# Altium schematic symbol library mp2315.SchLib: 2 symbols
Pins are listed as number, name and electrical type; pins without a type are passive.

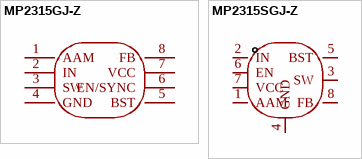
[diagram p0: symbols MP2315GJ-Z to MP2315SGJ-Z]

## MP2315GJ-Z
designator U?  (value not drawn)
Manufacturer: MPS(芯源); Add into BOM: yes; Function: 降压型; Input Voltage: 4.5V~24V; Output Voltage: 800mV~22.8V; Output Current: 3A; Switching Frequency: 500kHz; Synchronous Rectification: 是; Number of Outputs: 1; Topology: 降压式; Symbol: MP2315GJ-Z; Device: MP2315GJ-Z; LCSC Part Name: 高效率3A 24V 500kHz同步降压转换器; Supplier Part: C45889; Manufacturer Part: MP2315GJ-Z; Supplier Footprint: TSOT-23-8; JLCPCB Part Class: Extended Part; Datasheet: https://atta.szlcsc.com/upload/public/pdf/source/20240315/E986BDF075E08D3649664A84BD5F173B.pdf; Supplier: LCSC; Convert to PCB: yes; Output Type: -; Operating Temperature: -40℃~+125℃; Quiescent Current (Iq): -; Switch tube (built-in/external): -
footprint TSOT-23-8_L2.9-W1.6-P0.65-LS2.8-BR
pins: 1 AAM, 2 IN, 3 SW, 4 GND, 5 BST, 6 EN/SYNC, 7 VCC, 8 FB

## MP2315SGJ-Z
designator U?  (value not drawn)
Manufacturer: MPS(芯源); Add into BOM: yes; Function: 降压型; Output Type: 固定; Voltage - Supply: 4.5V~24V; Output Voltage: 800mV~22.8V; Output Current: 3A; Frequency - Switching: 500kHz; Synchronous Rectifier: 是; Number of Outputs: 1; Topology: 降压式; Quiescent Current: 120uA; Switch tube (built-in/external): 内置; Symbol: MP2315SGJ-Z; Device: MP2315SGJ-Z; LCSC Part Name: 3A、24V、500kHz高效同步降压转换器; Supplier Part: C3031493; Manufacturer Part: MP2315SGJ-Z; Supplier Footprint: TSOT-23-8; JLCPCB Part Class: Extended Part; Datasheet: https://atta.szlcsc.com/upload/public/pdf/source/20250306/6947E43CF096EA5EF0087E1884EF0D8F.pdf; Supplier: LCSC; Convert to PCB: yes; Operating Temperature: -40℃~+125℃
footprint TSOT-23-8_L2.9-W1.6-P0.65-LS2.8-BL
footprint TSOT-23-8_L2.9-W1.6-P0.65-LS2.8-BR
pins: 1 AAM, 2 IN, 3 SW, 4 GND, 5 BST, 6 EN, 7 VCC, 8 FB